# Altium footprint library PCB_LED_CALENDAR.PcbLib: 8 footprints
Each footprint in its own frame and in the unit in brackets; x right, y up, seen from the top. Pads: shape width x height; smd on the part's side, far side on the other; paste and mask are expansions set on the pad; w line width, h text height; cw(c..) or ccw(c..) is an arc to the next point about the centre after c.
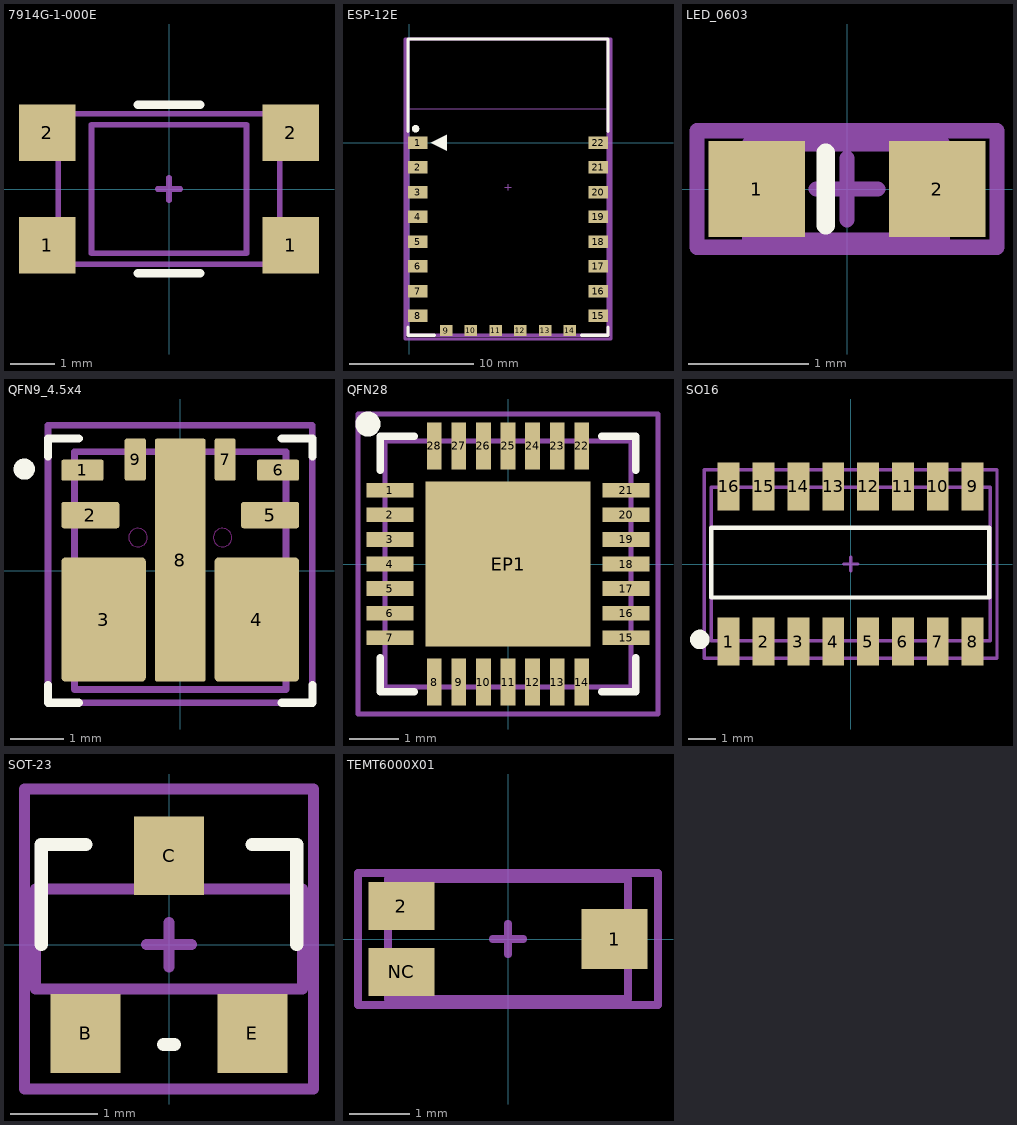
[diagram p0: the footprints below, top view; thin cyan lines are the x and y axes]

## 7914G-1-000E [mm] "Tact Switch"
height 1.9
pads (4):
  rect 1.27x1.27 smd: 1(-2.75,-1.27) 1(2.75,-1.27) 2(-2.75,1.27) 2(2.75,1.27)
Top Overlay:
  lines w0.2: -0.7,-1.9 0.7,-1.9 ; -0.7,1.9 0.7,1.9
Mechanical 13:
  lines w0.127: -1.75,-1.45 1.75,-1.45 1.75,1.45 -1.75,1.45 -1.75,-1.45
Mechanical 15 (Mech15):
  lines w0.127: -0.254,0 0.254,0 ; 0,-0.254 0,0.254 ; -2.5,-1.7 2.5,-1.7 2.5,1.7 -2.5,1.7 -2.5,-1.7
3D body "7914J-1-000E.stp": height 4.2, standoff 0.01, extent -2.55,-2.572 2.55,2.572

## ESP-12E [mm]
pads (22):
  rect 1.6x1 smd: 1(0.7,0) 2(0.7,-2) 3(0.7,-4) 4(0.7,-6) 5(0.7,-8) 6(0.7,-10) 7(0.7,-12) 8(0.7,-14) 15(15.3,-14) 16(15.3,-12) 17(15.3,-10) 18(15.3,-8) 19(15.3,-6) 20(15.3,-4) 21(15.3,-2) 22(15.3,0)
  rect 1x0.9 smd: 9(3,-15.2) 10(5,-15.2) 11(7,-15.2) 12(9,-15.2) 13(11,-15.2) 14(13,-15.2)
Top Overlay:
  circle w0.3: c0.525,1.125 r0.15
  region: 1.77,0 3.04,-0.635 3.04,0.635
  lines w0.254: -0.084,-14.916 -0.084,-15.568 2.068,-15.568 ; -0.084,0.916 -0.084,8.371 16.084,8.371 16.084,0.916 ; 13.932,-15.568 16.084,-15.568 16.084,-14.916
Mechanical 13:
  lines w0.051: -0.127,2.727 -0.127,8.382 16.129,8.382 16.129,2.727 -0.127,2.727
  lines w0.254: -0.084,-15.568 16.084,-15.568 16.084,8.371 -0.084,8.371 -0.084,-15.568
  text "CUTOUT POLYGON" at 1.499,7.315 h0.25
  text "ANTENNA AREA" at 1.499,7.823 h0.25
Mechanical 15 (Mech15):
  lines w0.1: 7.746,-3.598 8.254,-3.598 ; 8,-3.852 8,-3.344
  lines w0.254: -0.325,-15.875 -0.325,8.371 16.325,8.371 16.325,-15.875 -0.325,-15.875
3D body "ESP_12_E.STEP": height 2.75, standoff 0.04, extent 0.001,-15.491 16.001,8.509

## LED_0603 [mm]
pads (2):
  rect 0.8x0.8 smd: 1(-0.75,0) 2(0.75,0)
Top Overlay:
  lines w0.152: -0.175,-0.3 -0.175,0.3
Mechanical 13:
  lines w0.127: -0.809,-0.425 -0.809,0.375 0.791,0.375 0.791,-0.425 -0.809,-0.425
Mechanical 15 (Mech15):
  lines w0.127: -0.254,0 0.254,0 ; 0,-0.254 0,0.254 ; -1.245,-0.483 1.245,-0.483 1.245,0.483 -1.245,0.483 -1.245,-0.483
3D body "LED 0603 APT1608 YELLOW.STEP": height 0.75, standoff 0, extent -0.8,-0.4 0.8,0.4

## QFN9_4.5x4 [mm]
pads (9):
  rrect20% 0.8x0.4 smd paste-1 mask+0: 1(-1.85,1.9) 6(1.85,1.9)
  rrect20% 1.1x0.5 smd paste-2 mask+0: 2(-1.7,1.05) 5(1.7,1.05)
  rrect10% 1.6x2.35 smd paste-2 mask+0: 3(-1.45,-0.925) 4(1.45,-0.925)
  rrect20% 0.4x0.8 smd paste-1 mask+0: 7(0.85,2.1) 9(-0.85,2.1)
  rrect10% 0.96x4.6 smd paste-3 mask+0: 8(0,0.2)
Top Overlay:
  circle w0.2: c-2.95,1.92 r0.1
  lines w0.152: -2.5,-2.16 -2.5,-2.5 -1.92,-2.5 ; -2.5,2.16 -2.5,2.5 -1.92,2.5 ; 1.92,-2.5 2.5,-2.5 2.5,-2.16 ; 1.92,2.5 2.5,2.5 2.5,2.16
Top Paste:
  region: -1.825,-0.1 -2.201,-0.1 -2.201,0.2 -1.825,0.2
  region: -1.825,-0.75 -2.201,-0.75 -2.201,-0.45 -1.825,-0.45
  region: -1.825,-1.4 -2.2,-1.4 -2.2,-1.1 -1.825,-1.1
  region: -1.825,-2.052 -2.203,-2.052 -2.203,-1.75 -1.825,-1.75
  region: 2.2,-2.052 1.826,-2.052 1.826,-1.75 2.2,-1.75
  region: 2.2,-1.401 1.826,-1.401 1.826,-1.1 2.2,-1.1
  region: 2.2,-0.75 1.826,-0.75 1.826,-0.45 2.2,-0.45
  region: 2.2,-0.1 1.826,-0.1 1.826,0.2 2.2,0.2
  region: -0.705,-0.42 -1.625,-0.42 -1.625,0.19 -0.705,0.19
  region: -0.705,-1.231 -1.627,-1.231 -1.627,-0.62 -0.705,-0.62
  region: -0.705,-2.041 -1.626,-2.041 -1.626,-1.43 -0.705,-1.43
  region: 1.625,-0.42 0.705,-0.42 0.705,0.19 1.625,0.19
  region: 1.625,-1.231 0.705,-1.231 0.705,-0.62 1.625,-0.62
  region: 1.625,-2.043 0.706,-2.043 0.706,-1.43 1.625,-1.43
  region: 2.2,0.851 1.202,0.851 1.202,1.25 2.2,1.25
  region: 2.2,1.751 1.501,1.751 1.501,2.05 2.2,2.05
  region: 1,1.752 0.701,1.752 0.701,2.45 1,2.45
  region: 0.2,1.421 -0.2,1.421 -0.2,2.48 0.2,2.48
  region: -0.7,1.753 -1.002,1.753 -1.002,2.45 -0.7,2.45
  region: -1.5,1.753 -2.204,1.753 -2.204,2.05 -1.5,2.05
  region: -1.2,0.851 -2.202,0.851 -2.202,1.25 -1.2,1.25
Top Solder:
  region: -1.5,1.752 -2.203,1.752 -2.203,2.05 -1.5,2.05
  region: -1.2,0.851 -2.203,0.851 -2.203,1.25 -1.2,1.25
  region: -1.5,-0.1 -2.201,-0.1 -2.201,0.2 -1.5,0.2
  region: -1.5,-0.751 -2.204,-0.751 -2.204,-0.45 -1.5,-0.45
  region: -1.5,-1.401 -2.201,-1.401 -2.201,-1.1 -1.5,-1.1
  region: -1.5,-2.05 -2.2,-2.05 -2.2,-1.75 -1.5,-1.75
  region: 2.2,-0.1 1.501,-0.1 1.501,0.2 2.2,0.2
  region: 2.2,-0.75 1.501,-0.75 1.501,-0.45 2.2,-0.45
  region: 2.2,-1.403 1.503,-1.403 1.503,-1.1 2.2,-1.1
  region: 2.2,-2.054 1.503,-2.054 1.503,-1.75 2.2,-1.75
  region: 2.2,0.851 1.202,0.851 1.202,1.25 2.2,1.25
  region: 2.2,1.751 1.5,1.751 1.5,2.05 2.2,2.05
  region: -0.7,1.752 -1.001,1.752 -1.001,2.45 -0.7,2.45
  region: 1,1.753 0.701,1.753 0.701,2.45 1,2.45
  region: 0.2,1.421 -0.2,1.421 -0.2,2.48 0.2,2.48
  region: -0.7,-2.053 -1.827,-2.053 -1.827,0.2 -0.7,0.2
  region: 1.825,-2.053 0.701,-2.053 0.701,0.2 1.825,0.2
Keep-Out Layer:
  circle w0: c0.8,0.625 r0.175
  circle w0: c-0.8,0.625 r0.175
  circle w0: c0.8,0.625 r0.175
  circle w0: c-0.8,0.625 r0.175
Mechanical 13:
  lines w0.127: -2,-2.25 2,-2.25 2,2.25 -2,2.25 -2,-2.25
Mechanical 15 (Mech15):
  lines w0.127: -0.254,0 0.254,0 ; 0,-0.254 0,0.254 ; -2.5,-2.5 2.5,-2.5 2.5,2.75 -2.5,2.75 -2.5,-2.5
3D body "step_temp.STEP": height 2.05, standoff -0.05, extent -2,-2.25 2,2.25

## QFN28 [mm]
pads (29):
  rect 0.95x0.3 smd: 1(-2.4,1.5) 2(-2.4,1) 3(-2.4,0.5) 4(-2.4,0) 5(-2.4,-0.5) 6(-2.4,-1) 7(-2.4,-1.5) 15(2.4,-1.5) 16(2.4,-1) 17(2.4,-0.5) 18(2.4,0) 19(2.4,0.5) 20(2.4,1) 21(2.4,1.5)
  rect 0.3x0.95 smd: 8(-1.5,-2.4) 9(-1,-2.4) 10(-0.5,-2.4) 11(0,-2.4) 12(0.5,-2.4) 13(1,-2.4) 14(1.5,-2.4) 22(1.5,2.4) 23(1,2.4) 24(0.5,2.4) 25(0,2.4) 26(-0.5,2.4) 27(-1,2.4) 28(-1.5,2.4)
  rect 3.35x3.35 smd paste-3.2: EP1(0,0)
Top Overlay:
  circle w0.254: c-2.844,2.844 r0.127
  lines w0.152: -2.6,-2.6 -1.9,-2.6 ; -2.6,-2.591 -2.6,-1.9 ; -2.6,1.9 -2.6,2.6 ; -2.591,2.6 -1.9,2.6 ; 1.9,-2.6 2.591,-2.6 ; 1.9,2.6 2.6,2.6 ; 2.6,-2.6 2.6,-1.9 ; 2.6,1.9 2.6,2.591
Top Paste:
  region: 0.762,1.524 0.762,0.762 1.524,0.762 1.524,1.524
  region: -0.381,1.524 -0.381,0.762 0.381,0.762 0.381,1.524
  region: -1.524,0.762 -0.762,0.762 -0.762,1.524 -1.524,1.524
  region: -1.524,-1.524 -0.762,-1.524 -0.762,-0.762 -1.524,-0.762
  region: 0.381,-1.524 0.381,-0.762 -0.381,-0.762 -0.381,-1.524
  region: 1.524,-1.524 1.524,-0.762 0.762,-0.762 0.762,-1.524
  region: 0.381,-0.381 0.381,0.381 -0.381,0.381 -0.381,-0.381
  region: -0.762,-0.381 -0.762,0.381 -1.524,0.381 -1.524,-0.381
  region: 1.524,-0.381 1.524,0.381 0.762,0.381 0.762,-0.381
Mechanical 13:
  lines w0.1: -2.5,-2.5 -2.5,2.5 2.5,2.5 2.5,-2.5 -2.5,-2.5
Mechanical 15 (Mech15):
  lines w0.1: -0.5,0 0.5,0 ; 0,-0.5 0,0.5 ; -3.048,-3.048 -3.048,3.048 3.048,3.048 3.048,-3.048 -3.048,-3.048
3D body "User Library-QFN-28-0_5.STEP": height 1, standoff 0, extent -2.5,-2.5 2.5,2.5

## SO16 [mm]
pads (16):
  rect 0.8x1.75 smd: 1(-4.445,-2.825) 2(-3.175,-2.825) 3(-1.905,-2.825) 4(-0.635,-2.825) 5(0.635,-2.825) 6(1.905,-2.825) 7(3.175,-2.825) 8(4.445,-2.825) 9(4.445,2.825) 10(3.175,2.825) 11(1.905,2.825) 12(0.635,2.825) 13(-0.635,2.825) 14(-1.905,2.825) 15(-3.175,2.825) 16(-4.445,2.825)
Top Overlay:
  circle w0.508: c-5.5,-2.75 r0.1
  lines w0.152: -5.08,-1.219 5.055,-1.219 5.055,1.321 -5.08,1.321 -5.08,-1.219
Mechanical 13:
  lines w0.127: -5.08,-2.794 5.08,-2.794 5.08,2.794 -5.08,2.794 -5.08,-2.794
Mechanical 15 (Mech15):
  lines w0.127: -0.254,0 0.254,0 ; 0,-0.254 0,0.254 ; -5.334,-3.429 5.334,-3.429 5.334,3.429 -5.207,3.429 -5.334,3.429 -5.334,-3.429
3D body "User Library-sop16-1.step": height 1.58, standoff 0, extent -4.99,-3.117 4.991,3.117

## SOT-23 [mm]
pads (3):
  rect 0.8x0.9 smd: B(-0.952,-1.016) C(0,1.016) E(0.953,-1.016)
Top Overlay:
  lines w0.152: -1.46,0 -1.46,1.143 -0.952,1.143 ; -0.063,-1.143 0.064,-1.143 ; 0.953,1.143 1.461,1.143 1.461,0
Mechanical 13:
  lines w0.127: -1.524,-0.508 -1.524,0.635 1.524,0.635 1.524,-0.508 -1.524,-0.508
Mechanical 15 (Mech15):
  lines w0.127: -0.254,0 0.254,0 ; 0,-0.254 0,0.254 ; -1.651,-1.651 1.651,-1.651 1.651,1.778 -1.651,1.778 -1.651,-1.651
3D body "SOT23-3.STEP": height 1.29, standoff -0.01, extent -1.45,-1.4 1.45,1.4

## TEMT6000X01 [mm]
pads (3):
  rect 1.1x1 smd: 1(1.775,0)
  rect 1.1x0.8 smd: 2(-1.775,0.55) NC(-1.775,-0.55)
Mechanical 13:
  lines w0.127: -2,-1 -2,1 2,1 2,-1 -2,-1
Mechanical 15 (Mech15):
  lines w0.127: -0.254,0 0.254,0 ; 0,-0.254 0,0.254 ; -2.5,-1.1 -2.5,1.1 2.5,1.1 2.5,-1.1 -2.5,-1.1
3D body: height 1, standoff 0, extent -2,-1 2,1